# EAGLE library part TPS565208DDCR (library TPS565208DDCR)
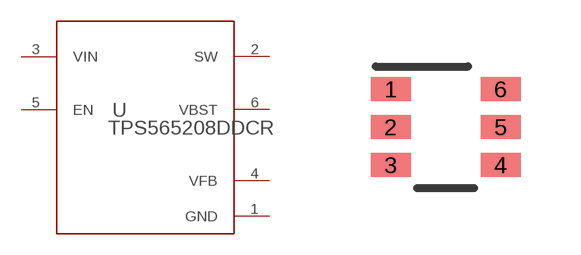
[diagram p0: symbol with the pads of DDC0006A_N; footprint DDC0006A_N]

Designator prefix U

## TPS565208DDCR (MANUFACTURER: Texas Instruments; MANUFACTURER_NAME: Texas Instruments; MANUFACTURER_PART_NUMBER: TPS565208DDCR; PARTNUMBER: TPS565208DDCR; REFDES: RefDes; TYPE: TYPE; VALUE: Value)  [DDC0006A_N]
1  GND  pwr
2  SW  pwr
3  VIN  pwr
4  VFB  in
5  EN  in
6  VBST  pwr

## Footprint DDC0006A_N (pad centres in mm)
smd 1 x 0.6: 1 -1.375,0.95; 2 -1.375,0; 3 -1.375,-0.95; 4 1.375,-0.95; 5 1.375,0; 6 1.375,0.95